# EAGLE library part TB9051FTG (library slothbot_parts)
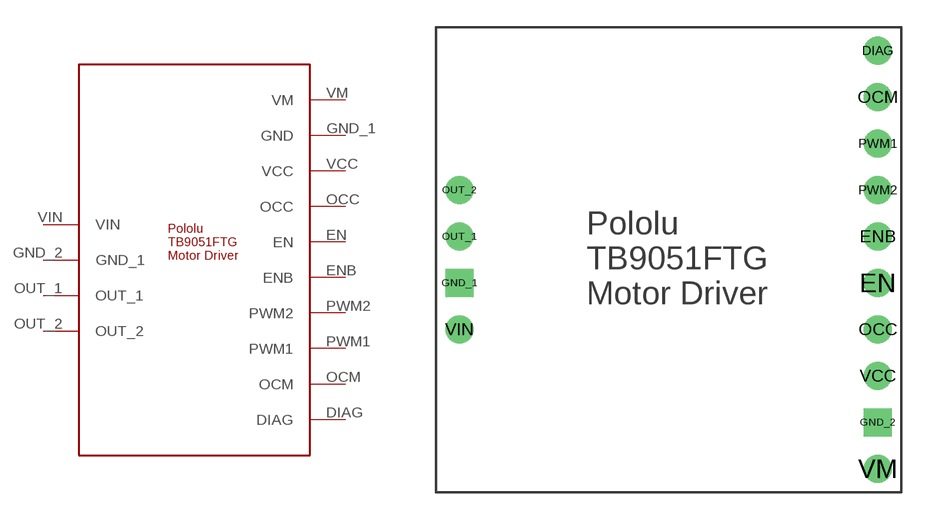
[diagram p1: symbol with the pads of TB9051FTG; footprint TB9051FTG]

Designator prefix -

## TB9051FTG  [TB9051FTG]
DIAG  DIAG
EN  EN
ENB  ENB
GND_1  GND
GND_2  GND_1
OCC  OCC
OCM  OCM
OUT_1  OUT_1
OUT_2  OUT_2
PWM1  PWM1
PWM2  PWM2
VCC  VCC
VIN  VIN
VM  VM

## Footprint TB9051FTG (pad centres in mm)
drill 1.02: DIAG 24.13,24.13; EN 24.13,11.43; ENB 24.13,13.97; OCC 24.13,8.89; OCM 24.13,21.59; OUT_1 1.27,13.97; OUT_2 1.27,16.51; PWM1 24.13,19.05; PWM2 24.13,16.51; VCC 24.13,6.35; VIN 1.27,8.89; VM 24.13,1.27
drill 1.02 square: GND_1 1.27,11.43; GND_2 24.13,3.81